# EAGLE library part DRV8320SRTVT (library DRV8320SRTVT)
TEXAS INSTRUMENTS - DRV8320SRTVT - MOSFET DRIVER, HALF BRIDGE, WQFN-32 <https://componentsearchengine.com/Images/9/DRV8320SRTVT.jpg> Source: Datasheet <http://www.ti.com/general/docs/lit/getliterature.tsp?genericPartNumber=DRV8320&fileType=pdf>
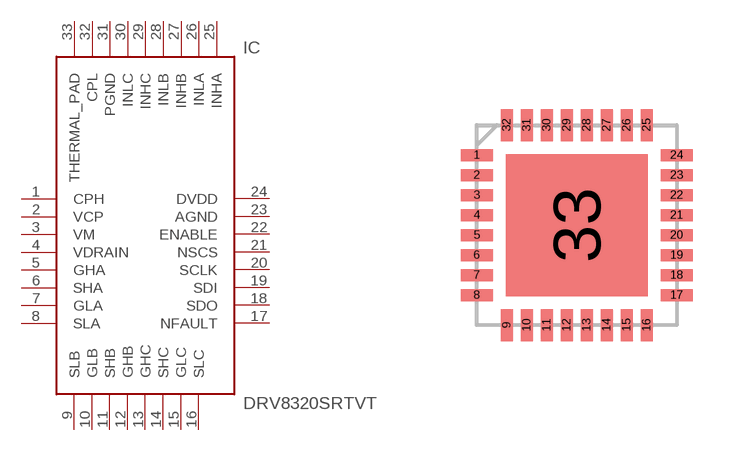
[diagram p0: symbol with the pads of QFN50P500X500X80-33N; footprint QFN50P500X500X80-33N]

Designator prefix IC

## DRV8320SRTVT (DESCRIPTION: TEXAS INSTRUMENTS - DRV8320SRTVT - MOSFET DRIVER, HALF BRIDGE, WQFN-32; HEIGHT: 0.8mm; MANUFACTURER_NAME: Texas Instruments; MANUFACTURER_PART_NUMBER: DRV8320SRTVT; SUPPLIER_NAME: RS)  [QFN50P500X500X80-33N]
1  CPH  pas
2  VCP  pas
3  VM  pas
4  VDRAIN  pas
5  GHA  pas
6  SHA  pas
7  GLA  pas
8  SLA  pas
9  SLB  pas
10  GLB  pas
11  SHB  pas
12  GHB  pas
13  GHC  pas
14  SHC  pas
15  GLC  pas
16  SLC  pas
17  NFAULT  pas
18  SDO  pas
19  SDI  pas
20  SCLK  pas
21  NSCS  pas
22  ENABLE  pas
23  AGND  pas
24  DVDD  pas
25  INHA  pas
26  INLA  pas
27  INHB  pas
28  INLB  pas
29  INHC  pas
30  INLC  pas
31  PGND  pas
32  CPL  pas
33  THERMAL_PAD  pas

## Footprint QFN50P500X500X80-33N (pad centres in mm)
RTV (S-PWQFN-N32)
smd 0.8 x 0.3: 1 -2.5,1.75; 2 -2.5,1.25; 3 -2.5,0.75; 4 -2.5,0.25; 5 -2.5,-0.25; 6 -2.5,-0.75; 7 -2.5,-1.25; 8 -2.5,-1.75; 17 2.5,-1.75; 18 2.5,-1.25; 19 2.5,-0.75; 20 2.5,-0.25; 21 2.5,0.25; 22 2.5,0.75; 23 2.5,1.25; 24 2.5,1.75
smd 0.3 x 0.8: 9 -1.75,-2.5; 10 -1.25,-2.5; 11 -0.75,-2.5; 12 -0.25,-2.5; 13 0.25,-2.5; 14 0.75,-2.5; 15 1.25,-2.5; 16 1.75,-2.5; 25 1.75,2.5; 26 1.25,2.5; 27 0.75,2.5; 28 0.25,2.5; 29 -0.25,2.5; 30 -0.75,2.5; 31 -1.25,2.5; 32 -1.75,2.5
smd 3.55 x 3.55: 33 0,0